# Altium footprint library BAV99S.PcbLib: 4 footprints
Each footprint in its own frame and in the unit in brackets; x right, y up, seen from the top. Pads: shape width x height; smd on the part's side, far side on the other; paste and mask are expansions set on the pad; w line width, h text height; cw(c..) or ccw(c..) is an arc to the next point about the centre after c.
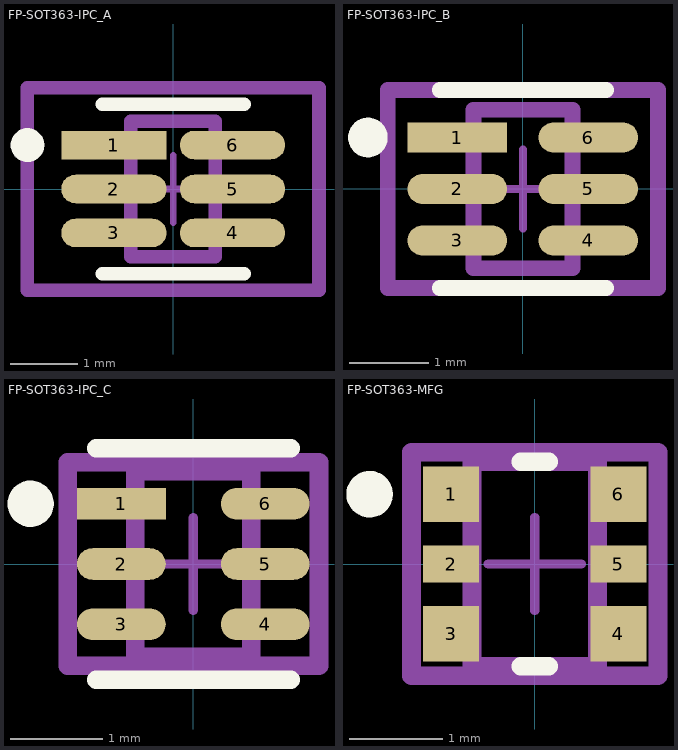
[diagram p0: the footprints below, top view; thin cyan lines are the x and y axes]

## FP-SOT363-IPC_A [mm]
pads (6):
  rect 1.559x0.422 smd paste+0 mask+0: 1(-0.877,0.65)
  rrect100% 1.559x0.422 smd paste+0 mask+0: 2(-0.877,0) 3(-0.877,-0.65) 4(0.877,-0.65) 5(0.877,0) 6(0.877,0.65)
Top Overlay:
  circle w0.25: c-2.156,0.65 r0.125
  lines w0.2: -1.05,-1.25 1.05,-1.25 ; -1.05,1.25 1.05,1.25
Top Assembly:
  lines w0.2: -2.156,-1.5 2.156,-1.5 2.156,1.5 -2.156,1.5 -2.156,-1.5
  text ".Designator" at 0,0.188 h1
Top 3D Body:
  lines w0.2: -0.625,-1 0.625,-1 0.625,1 -0.625,1 -0.625,-1
Top Courtyard:
  lines w0.2: -2.156,-1.5 2.156,-1.5 2.156,1.5 -2.156,1.5 -2.156,-1.5
Top Component Center:
  lines w0.1: -0.5,0 0.5,0 ; 0,-0.5 0,0.5
3D body "Trans_Nexperia_NX3008NBKS_115_eec.STEP": height 0.25, standoff 0, extent -2.156,-1.5 2.156,1.5

## FP-SOT363-IPC_B [mm]
pads (6):
  rect 1.259x0.382 smd paste+0 mask+0: 1(-0.827,0.65)
  rrect100% 1.259x0.382 smd paste+0 mask+0: 2(-0.827,0) 3(-0.827,-0.65) 4(0.827,-0.65) 5(0.827,0) 6(0.827,0.65)
Top Overlay:
  circle w0.25: c-1.956,0.65 r0.125
  lines w0.2: -1.05,-1.25 1.05,-1.25 ; -1.05,1.25 1.05,1.25
Top Assembly:
  lines w0.2: -1.706,-1.25 1.706,-1.25 1.706,1.25 -1.706,1.25 -1.706,-1.25
  text ".Designator" at 0,0.188 h1
Top 3D Body:
  lines w0.2: -0.625,-1 0.625,-1 0.625,1 -0.625,1 -0.625,-1
Top Courtyard:
  lines w0.2: -1.706,-1.25 1.706,-1.25 1.706,1.25 -1.706,1.25 -1.706,-1.25
Top Component Center:
  lines w0.1: -0.5,0 0.5,0 ; 0,-0.5 0,0.5
3D body "Trans_Nexperia_NX3008NBKS_115_eec.STEP": height 0.25, standoff 0, extent -1.706,-1.25 1.706,1.25

## FP-SOT363-IPC_C [mm]
pads (6):
  rect 0.959x0.342 smd paste+0 mask+0: 1(-0.777,0.65)
  rrect100% 0.959x0.342 smd paste+0 mask+0: 2(-0.777,0) 3(-0.777,-0.65) 4(0.777,-0.65) 5(0.777,0) 6(0.777,0.65)
Top Overlay:
  circle w0.25: c-1.756,0.65 r0.125
  lines w0.2: -1.05,-1.25 1.05,-1.25 ; -1.05,1.25 1.05,1.25
Top Assembly:
  lines w0.2: -1.356,-1.1 1.356,-1.1 1.356,1.1 -1.356,1.1 -1.356,-1.1
  text ".Designator" at 0,0.188 h1
Top 3D Body:
  lines w0.2: -0.625,-1 0.625,-1 0.625,1 -0.625,1 -0.625,-1
Top Courtyard:
  lines w0.2: -1.356,-1.1 1.356,-1.1 1.356,1.1 -1.356,1.1 -1.356,-1.1
Top Component Center:
  lines w0.1: -0.5,0 0.5,0 ; 0,-0.5 0,0.5
3D body "Trans_Nexperia_NX3008NBKS_115_eec.STEP": height 0.25, standoff 0, extent -1.356,-1.1 1.356,1.1

## FP-SOT363-MFG [mm]
pads (6):
  rect 0.6x0.6 smd paste-1000 mask+0: 1(-0.9,0.75) 3(-0.9,-0.75) 4(0.9,-0.75) 6(0.9,0.75)
  rect 0.6x0.4 smd paste+0 mask+0: 2(-0.9,0) 5(0.9,0)
Top Overlay:
  circle w0.25: c-1.775,0.75 r0.125
  lines w0.2: -0.15,-1.1 0.15,-1.1 ; -0.15,1.1 0.15,1.1
Top Paste:
  rectangle: 0.65,0.5 1.15,1
  rectangle: 0.65,-1 1.15,-0.5
  rectangle: -1.15,-1 -0.65,-0.5
  rectangle: -1.15,0.5 -0.65,1
Top Assembly:
  lines w0.2: -1.325,-1.2 1.325,-1.2 1.325,1.2 -1.325,1.2 -1.325,-1.2
  text ".Designator" at 0,-0.001 h1
Top 3D Body:
  lines w0.2: -0.675,-1.1 0.675,-1.1 0.675,1.1 -0.675,1.1 -0.675,-1.1
Top Courtyard:
  lines w0.2: -1.325,-1.2 1.325,-1.2 1.325,1.2 -1.325,1.2 -1.325,-1.2
Top Component Center:
  lines w0.1: -0.5,0 0.5,0 ; 0,-0.5 0,0.5
3D body "Trans_Nexperia_NX3008NBKS_115_eec.STEP": height 0.25, standoff 0, extent -1.325,-1.2 1.325,1.2